# Altium schematic symbol library BAS3005B-02V.A1.Schlib: 1 symbol
Pins are listed as number, name and electrical type; pins without a type are passive.

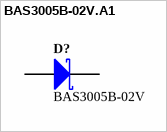
[diagram p0: symbol BAS3005B-02V.A1]

## BAS3005B-02V.A1
designator D?, comment BAS3005B-02V
BAS3005B-02V E6327, 0.5A/30V, 3.5A repetitive peak
pins: 1 K, 2 A